# Altium schematic symbol library LED.Schlib: 1 symbol
Pins are listed as number, name and electrical type; pins without a type are passive.

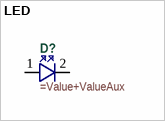
[diagram p0: symbol LED]

## LED
designator D?
直插式LED
footprint LED 3MM-R (红色3mm直插LED)
footprint LED 5MM-R (红色5mm直插LED)
pins: 1 A, 2 K